# Altium footprint library 2AG Fuse.PcbLib: 1 footprints
Each footprint in its own frame and in the unit in brackets; x right, y up, seen from the top. Pads: shape width x height; smd on the part's side, far side on the other; paste and mask are expansions set on the pad; w line width, h text height; cw(c..) or ccw(c..) is an arc to the next point about the centre after c.
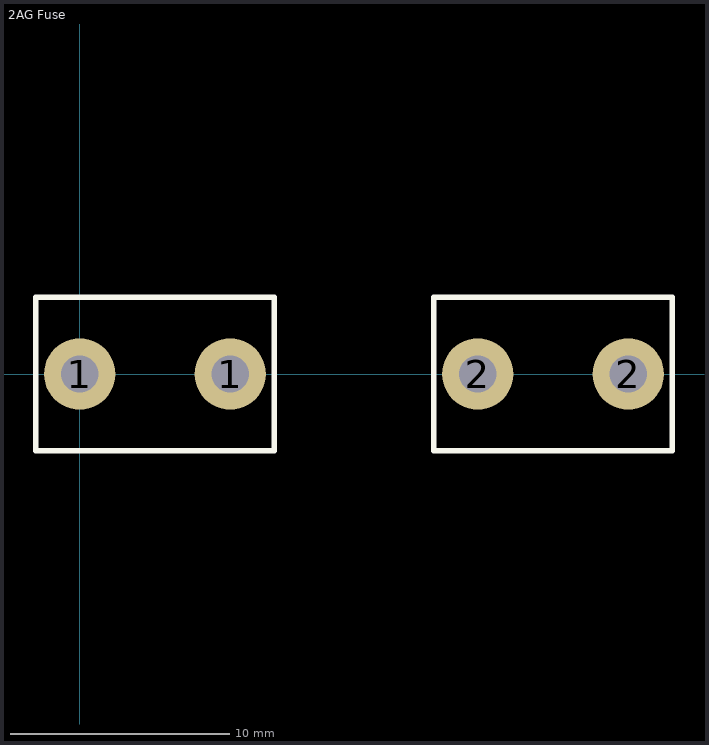
[diagram p0: the footprint, top view; thin cyan lines are the x and y axes]

## 2AG Fuse [mm] "5mm x 20mm Fuse Clips"
pads (4):
  round 3.25 hole 1.7: 1(0,0) 1(6.86,0) 2(18.14,0) 2(25,0)
Top Overlay:
  lines w0.254: -2,-3.5 8.86,-3.5 8.86,3.5 -2,3.5 -2,-3.5 ; 16.14,-3.5 16.14,3.5 27,3.5 27,-3.5 16.14,-3.5
3D body: height 10.97, standoff 4, extent 18.673,-3.493 23.673,3.493
3D body: height 10.97, standoff 4, extent 1.488,-3.487 6.488,3.499
3D body: height 10.48, standoff 4.5, extent 2.489,-3.109 22.739,2.879
3D body: height 11.16, standoff -3.33, extent -0.646,-3.963 7.454,3.937
3D body: height 11.16, standoff -3.33, extent 17.515,-3.962 25.615,3.938